# EAGLE library part ADXL203CE (library ADXL203)
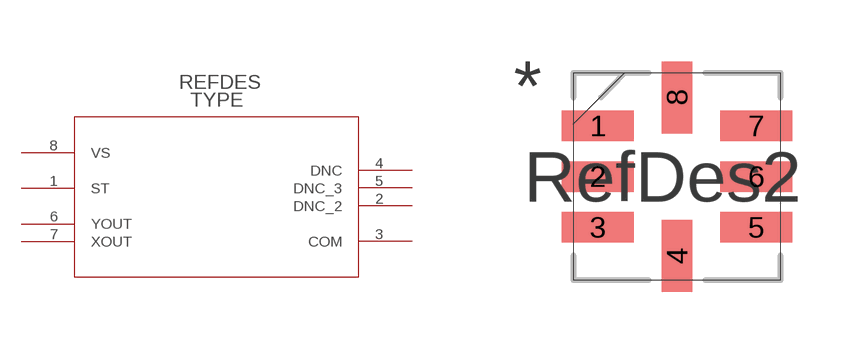
[diagram p0: symbol with the pads of E_8_1; footprint E_8_1]

Designator prefix U

## ADXL203CE  [E_8_1]
1  ST  pas
2  DNC_2  pas
3  COM  pas
4  DNC  pas
5  DNC_3  pas
6  YOUT  pas
7  XOUT  pas
8  VS  pas

## Footprint E_8_1 (pad centres in mm)
smd 1.803 x 0.762: 1 -1.981,1.27; 2 -1.981,0; 3 -1.981,-1.27; 5 1.981,-1.27; 6 1.981,0; 7 1.981,1.27
smd 0.762 x 1.803: 4 0,-1.981; 8 0,1.981